# Altium integrated library PNM0402E5000BST1.IntLib: 1 symbol
Pins are listed as number, name and electrical type; pins without a type are passive.

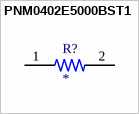
[diagram p0: symbol PNM0402E5000BST1]

## PNM0402E5000BST1
designator R?
500 OHM .1% 25PPM; MP: PNM0402E5000BST1; Package: None; Price: None; Value: *; Availability: Unavailable
footprint RESC1005X40
pins: 1, 2